# Altium schematic symbol library MyLibs_Connectors.SchLib: 17 symbols
Pins are listed as number, name and electrical type; pins without a type are passive.

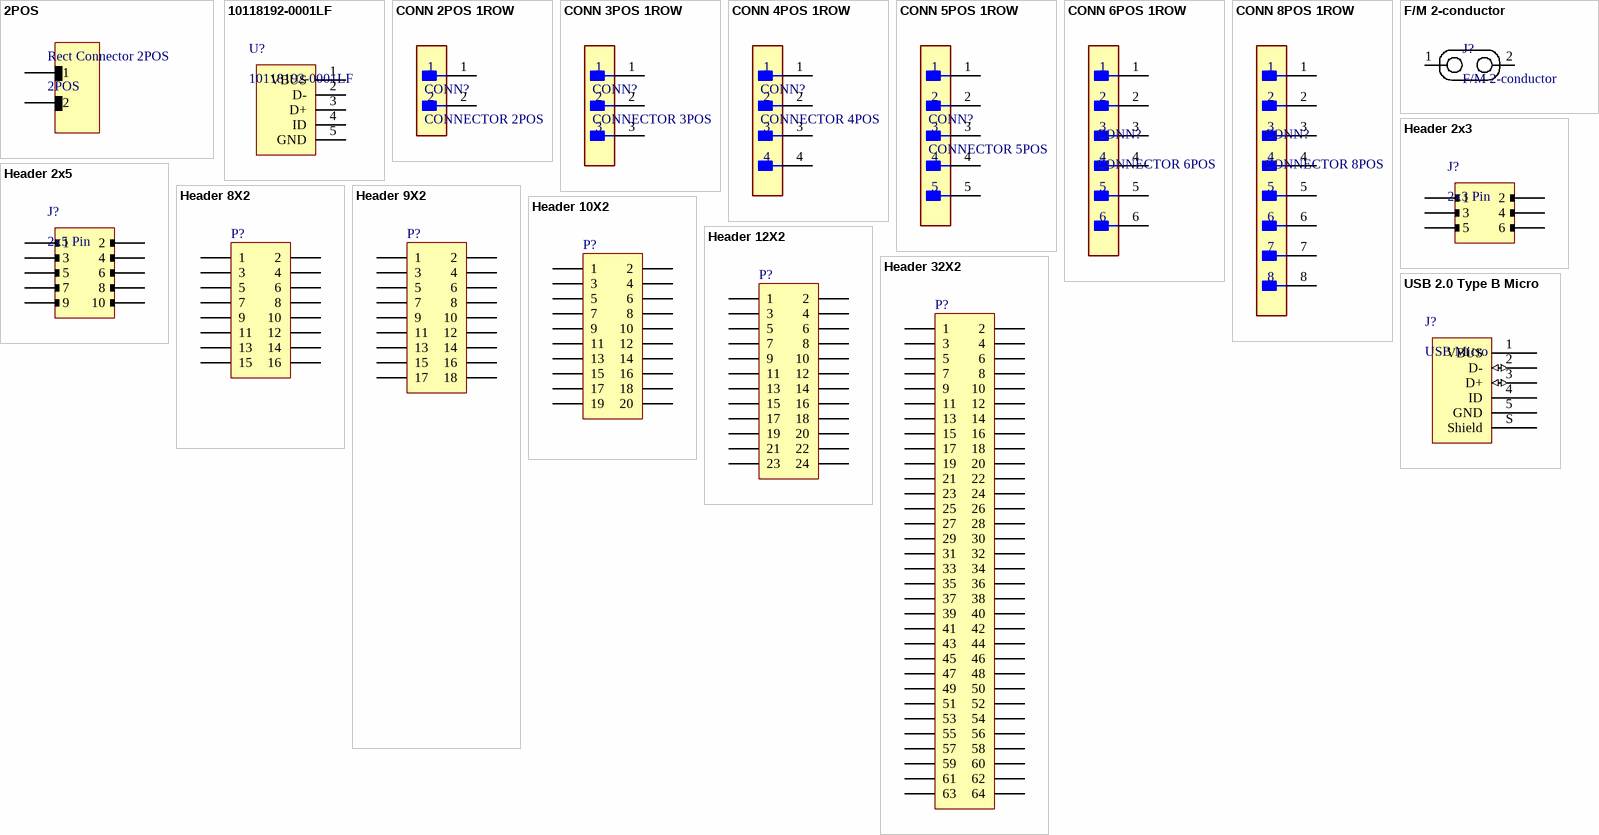
[diagram p0: symbols 2POS to USB 2.0 Type B Micro]

## 2POS
designator Rect Connector 2POS
2 Positions rectangular connector
pins: 1, 2

## 10118192-0001LF
designator U?
USB - micro B USB 2.0 Receptacle Connector 5 Position Surface Mount, Right Angle
pins: 1 VBUS, 2 D-, 3 D+, 4 ID, 5 GND, 6 hidden to GND

## CONN 2POS 1ROW
designator CONN?, comment CONNECTOR 2POS
GENERIC CONNECTOR 2POS 1ROW
pins: 1, 2

## CONN 3POS 1ROW
designator CONN?, comment CONNECTOR 3POS
GENERIC CONNECTOR 3POS 1ROW
pins: 1, 2, 3

## CONN 4POS 1ROW
designator CONN?, comment CONNECTOR 4POS
GENERIC CONNECTOR 4POS 1ROW
pins: 1, 2, 3, 4

## CONN 5POS 1ROW
designator CONN?, comment CONNECTOR 5POS
GENERIC CONNECTOR 5POS 1ROW
pins: 1, 2, 3, 4, 5

## CONN 6POS 1ROW
designator CONN?, comment CONNECTOR 6POS
GENERIC CONNECTOR 6POS 1ROW
pins: 1, 2, 3, 4, 5, 6

## CONN 8POS 1ROW
designator CONN?, comment CONNECTOR 8POS
GENERIC CONNECTOR 8POS 1ROW
pins: 1, 2, 3, 4, 5, 6, 7, 8

## F/M 2-conductor
designator J?
pins: 1, 2

## Header 2x3
designator J?, comment 2x3 Pin
pins: 1, 2, 3, 4, 5, 6

## Header 2x5
designator J?, comment 2x5 Pin
pins: 1, 2, 3, 4, 5, 6, 7, 8, 9, 10

## Header 8X2
designator P?
Header, 8-Pin, Dual row
signal-integrity model Connector
pins: 1, 2, 3, 4, 5, 6, 7, 8, 9, 10, 11, 12, 13, 14, 15, 16

## Header 9X2
designator P?
Header, 9-Pin, Dual row
signal-integrity model Connector
pins: 1, 2, 3, 4, 5, 6, 7, 8, 9, 10, 11, 12, 13, 14, 15, 16, 17, 18

## Header 10X2
designator P?
Header, 10-Pin, Dual row
signal-integrity model Connector
pins: 1, 2, 3, 4, 5, 6, 7, 8, 9, 10, 11, 12, 13, 14, 15, 16, 17, 18, 19, 20

## Header 12X2
designator P?
Header, 12-Pin, Dual row
signal-integrity model Connector
pins: 1, 2, 3, 4, 5, 6, 7, 8, 9, 10, 11, 12, 13, 14, 15, 16, 17, 18, 19, 20, 21, 22, 23, 24

## Header 32X2
designator P?
Header, 32-Pin, Dual row
signal-integrity model Connector
pins: 1, 2, 3, 4, 5, 6, 7, 8, 9, 10, 11, 12, 13, 14, 15, 16, 17, 18, 19, 20, 21, 22, 23, 24, 25, 26, 27, 28, 29, 30, 31, 32, 33, 34, 35, 36, 37, 38, 39, 40, 41, 42, 43, 44, 45, 46, 47, 48, 49, 50, 51, 52, 53, 54, 55, 56, 57, 58, 59, 60, 61, 62, 63, 64

## USB 2.0 Type B Micro
designator J?, comment USB Micro
USB - micro B USB 2.0 Receptacle Connector 5 Position Surface Mount
pins: 1 VBUS (power), 2 D- (io), 3 D+ (io), 4 ID, 5 GND (power), S Shield